# Altium schematic symbol library WS-TOTV.SchLib: 20 symbols
Pins are listed as number, name and electrical type; pins without a type are passive.

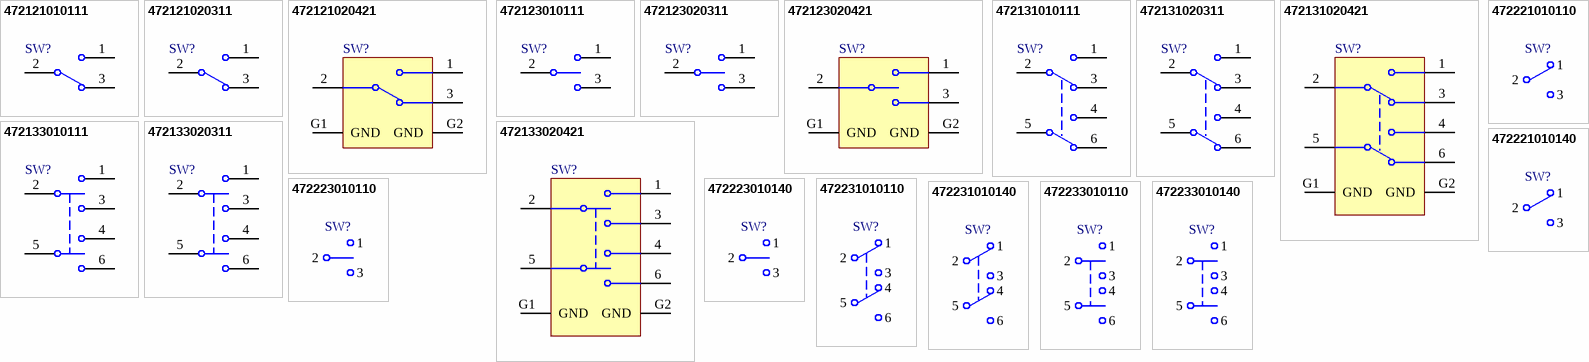
[diagram p0: symbols 472121010111 to 472233010140]

## 472121010111
designator SW?  (value not drawn)
WS-TOTV Ø 6.35mm Panel Cut-Out Vertical Operation Toggle Switch, SPDT, ON-ON; Manufacturer: Wurth Elektronik; Actuator Length: 10.4mm; Bushing Length: 9mm; Insulation Resistance: 1000MΩ; Rated Current: 1A; Rated Voltage (DC): 30V; Withstanding Voltage: 500VAC; Manufacturer Part Number: 472121010111; Category: Toggle Switch; Match Code: WS-TOTV; ComponentLink1Description: Website Link; ComponentLink1URL: https://www.we-online.com/redexpert/article/472121010111?ad; ComponentLink2Description: Datasheet Link; ComponentLink2URL: https://www.we-online.com/redexpert/spec/472121010111?ad; Min Operating Temperature: -40°C; Max Operating Temperature: 85°C; Packaging: Tray; Length: 12.7mm; Width: 6.6mm; Height: 28.2mm; Circuit: SPDT; Switching Function: ON-ON
footprint 472121010111
pins: 1, 2, 3

## 472121020311
designator SW?  (value not drawn)
WS-TOTV Ø 6.35mm Panel Cut-Out Vertical Operation Toggle Switch, SPDT, ON-ON; Manufacturer: Wurth Elektronik; Actuator Length: 7.3mm; Bushing Length: 7.1mm; Insulation Resistance: 1000MΩ; Rated Current: 1A; Rated Voltage (DC): 30V; Withstanding Voltage: 500VAC; Manufacturer Part Number: 472121020311; Category: Toggle Switch; Match Code: WS-TOTV; ComponentLink1Description: Website Link; ComponentLink1URL: https://www.we-online.com/redexpert/article/472121020311?ad; ComponentLink2Description: Datasheet Link; ComponentLink2URL: https://www.we-online.com/redexpert/spec/472121020311?ad; Min Operating Temperature: -40°C; Max Operating Temperature: 85°C; Packaging: Tray; Length: 12.7mm; Width: 6.6mm; Height: 23.2mm; Circuit: SPDT; Switching Function: ON-ON
footprint 472121020311
pins: 1, 2, 3

## 472121020421
designator SW?  (value not drawn)
WS-TOTV Ø 6.35mm Panel Cut-Out Right Angle Operation Toggle Switch, SPDT, ON-ON; Manufacturer: Wurth Elektronik; Actuator Length: 6.7mm; Insulation Resistance: 1000MΩ; Rated Current: 1A; Rated Voltage (DC): 30V; Withstanding Voltage: 500VAC; Manufacturer Part Number: 472121020421; Category: Toggle Switch; Match Code: WS-TOTV; ComponentLink1Description: Website Link; ComponentLink1URL: https://www.we-online.com/redexpert/article/472121020421?ad; ComponentLink2Description: Datasheet Link; ComponentLink2URL: https://www.we-online.com/redexpert/spec/472121020421?ad; Min Operating Temperature: -40°C; Max Operating Temperature: 85°C; Packaging: Tray; Length: 12.7mm; Width: 22.6mm; Height: 6.6mm; Bushing Length: 6.7mm; Circuit: SPDT; Switching Function: ON-ON
footprint 472121020421
pins: 1, 2, 3, G1 GND, G2 GND

## 472123010111
designator SW?  (value not drawn)
WS-TOTV Ø 6.35mm Panel Cut-Out Vertical Operation Toggle Switch, SPDT, ON-OFF-ON; Manufacturer: Wurth Elektronik; Actuator Length: 10.7mm; Bushing Length: 9mm; Insulation Resistance: 1000MΩ; Rated Current: 1A; Rated Voltage (DC): 30V; Withstanding Voltage: 500VAC; Manufacturer Part Number: 472123010111; Category: Toggle Switch; Match Code: WS-TOTV; ComponentLink1Description: Website Link; ComponentLink1URL: https://www.we-online.com/redexpert/article/472123010111?ad; ComponentLink2Description: Datasheet Link; ComponentLink2URL: https://www.we-online.com/redexpert/spec/472123010111?ad; Min Operating Temperature: -40°C; Max Operating Temperature: 85°C; Packaging: Tray; Length: 12.7mm; Width: 6.6mm; Height: 28.5mm; Circuit: SPDT; Switching Function: ON-OFF-ON
footprint 472123010111
pins: 1, 2, 3

## 472123020311
designator SW?  (value not drawn)
WS-TOTV Ø 6.35mm Panel Cut-Out Vertical Operation Toggle Switch, SPDT, ON-OFF-ON; Manufacturer: Wurth Elektronik; Actuator Length: 7.5mm; Bushing Length: 7.1mm; Insulation Resistance: 1000MΩ; Rated Current: 1A; Rated Voltage (DC): 30V; Withstanding Voltage: 500VAC; Manufacturer Part Number: 472123020311; Category: Toggle Switch; Match Code: WS-TOTV; ComponentLink1Description: Website Link; ComponentLink1URL: https://www.we-online.com/redexpert/article/472123020311?ad; ComponentLink2Description: Datasheet Link; ComponentLink2URL: https://www.we-online.com/redexpert/spec/472123020311?ad; Min Operating Temperature: -40°C; Max Operating Temperature: 85°C; Packaging: Tray; Length: 12.7mm; Width: 6.6mm; Height: 23.4mm; Circuit: SPDT; Switching Function: ON-OFF-ON
footprint 472123020311
pins: 1, 2, 3

## 472123020421
designator SW?  (value not drawn)
WS-TOTV Ø 6.35mm Panel Cut-Out Right Angle Operation Toggle Switch, SPDT, ON-OFF-ON; Manufacturer: Wurth Elektronik; Actuator Length: 7mm; Insulation Resistance: 1000MΩ; Rated Current: 1A; Rated Voltage (DC): 30V; Withstanding Voltage: 500VAC; Manufacturer Part Number: 472123020421; Category: Toggle Switch; Match Code: WS-TOTV; ComponentLink1Description: Website Link; ComponentLink1URL: https://www.we-online.com/redexpert/article/472123020421?ad; ComponentLink2Description: Datasheet Link; ComponentLink2URL: https://www.we-online.com/redexpert/spec/472123020421?ad; Min Operating Temperature: -40°C; Max Operating Temperature: 85°C; Packaging: Tray; Length: 12.7mm; Width: 22.9mm; Height: 6.6mm; Bushing Length: 7mm; Circuit: SPDT; Switching Function: ON-OFF-ON
footprint 472123020421
pins: 1, 2, 3, G1 GND, G2 GND

## 472131010111
designator SW?  (value not drawn)
WS-TOTV Ø 6.35mm Panel Cut-Out Vertical Operation Toggle Switch, DPDT, ON-ON; Manufacturer: Wurth Elektronik; Actuator Length: 10.4mm; Bushing Length: 9mm; Insulation Resistance: 1000MΩ; Rated Current: 1A; Rated Voltage (DC): 30V; Withstanding Voltage: 500VAC; Manufacturer Part Number: 472131010111; Category: Toggle Switch; Match Code: WS-TOTV; ComponentLink1Description: Website Link; ComponentLink1URL: https://www.we-online.com/redexpert/article/472131010111?ad; ComponentLink2Description: Datasheet Link; ComponentLink2URL: https://www.we-online.com/redexpert/spec/472131010111?ad; Min Operating Temperature: -40°C; Max Operating Temperature: 85°C; Packaging: Tray; Length: 12.7mm; Width: 11.4mm; Height: 29.6mm; Circuit: DPDT; Switching Function: ON-ON
footprint 472131010111
pins: 1, 2, 3, 4, 5, 6

## 472131020311
designator SW?  (value not drawn)
WS-TOTV Ø 6.35mm Panel Cut-Out Vertical Operation Toggle Switch, DPDT, ON-ON; Manufacturer: Wurth Elektronik; Actuator Length: 7.3mm; Bushing Length: 7.1mm; Insulation Resistance: 1000MΩ; Rated Current: 1A; Rated Voltage (DC): 30V; Withstanding Voltage: 500VAC; Manufacturer Part Number: 472131020311; Category: Toggle Switch; Match Code: WS-TOTV; ComponentLink1Description: Website Link; ComponentLink1URL: https://www.we-online.com/redexpert/article/472131020311?ad; ComponentLink2Description: Datasheet Link; ComponentLink2URL: https://www.we-online.com/redexpert/spec/472131020311?ad; Min Operating Temperature: -40°C; Max Operating Temperature: 85°C; Packaging: Tray; Length: 12.7mm; Width: 11.4mm; Height: 24.6mm; Circuit: DPDT; Switching Function: ON-ON
footprint 472131020311
pins: 1, 2, 3, 4, 5, 6

## 472131020421
designator SW?  (value not drawn)
WS-TOTV Ø 6.35mm Panel Cut-Out Right Angle Operation Toggle Switch, DPDT, ON-ON; Manufacturer: Wurth Elektronik; Actuator Length: 6.7mm; Insulation Resistance: 1000MΩ; Rated Current: 1A; Rated Voltage (DC): 30V; Withstanding Voltage: 500VAC; Manufacturer Part Number: 472131020421; Category: Toggle Switch; Match Code: WS-TOTV; ComponentLink1Description: Website Link; ComponentLink1URL: https://www.we-online.com/redexpert/article/472131020421?ad; ComponentLink2Description: Datasheet Link; ComponentLink2URL: https://www.we-online.com/redexpert/spec/472131020421?ad; Min Operating Temperature: -40°C; Max Operating Temperature: 85°C; Packaging: Tray; Length: 12.7mm; Width: 22.6mm; Height: 11.4mm; Bushing Length: 6.7mm; Circuit: DPDT; Switching Function: ON-ON
footprint 472131020421
pins: 1, 2, 3, 4, 5, 6, G1 GND, G2 GND

## 472133010111
designator SW?  (value not drawn)
WS-TOTV Ø 6.35mm Panel Cut-Out Vertical Operation Toggle Switch, DPDT, ON-OFF-ON; Manufacturer: Wurth Elektronik; Actuator Length: 10.7mm; Bushing Length: 9mm; Insulation Resistance: 1000MΩ; Rated Current: 1A; Rated Voltage (DC): 30V; Withstanding Voltage: 500VAC; Manufacturer Part Number: 472133010111; Category: Toggle Switch; Match Code: WS-TOTV; ComponentLink1Description: Website Link; ComponentLink1URL: https://www.we-online.com/redexpert/article/472133010111?ad; ComponentLink2Description: Datasheet Link; ComponentLink2URL: https://www.we-online.com/redexpert/spec/472133010111?ad; Min Operating Temperature: -40°C; Max Operating Temperature: 85°C; Packaging: Tray; Length: 12.7mm; Width: 11.4mm; Height: 29.9mm; Circuit: DPDT; Switching Function: ON-OFF-ON
footprint 472133010111
pins: 1, 2, 3, 4, 5, 6

## 472133020311
designator SW?  (value not drawn)
WS-TOTV Ø 6.35mm Panel Cut-Out Vertical Operation Toggle Switch, DPDT, ON-OFF-ON; Manufacturer: Wurth Elektronik; Actuator Length: 7.5mm; Bushing Length: 7.1mm; Insulation Resistance: 1000MΩ; Rated Current: 1A; Rated Voltage (DC): 30V; Withstanding Voltage: 500VAC; Manufacturer Part Number: 472133020311; Category: Toggle Switch; Match Code: WS-TOTV; ComponentLink1Description: Website Link; ComponentLink1URL: https://www.we-online.com/redexpert/article/472133020311?ad; ComponentLink2Description: Datasheet Link; ComponentLink2URL: https://www.we-online.com/redexpert/spec/472133020311?ad; Min Operating Temperature: -40°C; Max Operating Temperature: 85°C; Packaging: Tray; Length: 12.7mm; Width: 11.4mm; Height: 24.8mm; Circuit: DPDT; Switching Function: ON-OFF-ON
footprint 472133020311
pins: 1, 2, 3, 4, 5, 6

## 472133020421
designator SW?  (value not drawn)
WS-TOTV Ø 6.35 mm Panel Cut-Out Right Angle Operation Toggle Switch, DPDT, ON-OFF-ON; Manufacturer: Wurth Elektronik; Actuator Length: 7mm; Bushing Length: 7.1mm; Insulation Resistance: 1000MΩ; Rated Current: 1A; Rated Voltage (DC): 30V; Withstanding Voltage: 500VAC; Manufacturer Part Number: 472133020421; Category: Toggle Switch; Match Code: WS-TOTV; ComponentLink1Description: Website Link; ComponentLink1URL: https://www.we-online.com/redexpert/article/472133020421?ad; ComponentLink2Description: Datasheet Link; ComponentLink2URL: https://www.we-online.com/redexpert/spec/472133020421?ad; Min Operating Temperature: -40°C; Max Operating Temperature: 85°C; Packaging: Tray; Length: 12.7mm; Width: 22.9mm; Height: 11.4mm; Circuit: DPDT; Switching Function: ON-OFF-ON
footprint 472133020421
pins: 1, 2, 3, 4, 5, 6, G1 GND, G2 GND

## 472221010110
designator SW?  (value not drawn)
WS-TOTV Ø 12 mm Panel Cut-Out Vertical Operation Toggle Switch with 6.3 mm quick-connect Terminal, SPDT, ON-ON; Manufacturer: Wurth Elektronik; Insulation Resistance: 100MΩ; Manufacturer Part Number: 472221010110; Category: Toggle Switch; Match Code: WS-TOTV; ComponentLink1Description: Website Link; ComponentLink1URL: https://www.we-online.com/redexpert/article/472221010110?ad; ComponentLink2Description: Datasheet Link; ComponentLink2URL: https://www.we-online.com/redexpert/spec/472221010110?ad; Min Operating Temperature: -40°C; Max Operating Temperature: 85°C; Packaging: Tray; Circuit: SPDT; Switching Function: ON-ON
footprint 472221010110_without locking ring
footprint 472221010110_with locking ring
text: 1; 2; 3

## 472221010140
designator SW?  (value not drawn)
WS-TOTV Ø 12 mm Panel Cut-Out Vertical Operation Toggle Switch with Screw Terminal, SPDT, ON-ON; Manufacturer: Wurth Elektronik; Insulation Resistance: 100MΩ; Manufacturer Part Number: 472221010140; Category: Toggle Switch; Match Code: WS-TOTV; ComponentLink1Description: Website Link; ComponentLink1URL: https://www.we-online.com/redexpert/article/472221010140?ad; ComponentLink2Description: Datasheet Link; ComponentLink2URL: https://www.we-online.com/redexpert/spec/472221010140?ad; Min Operating Temperature: -40°C; Max Operating Temperature: 85°C; Packaging: Tray; Circuit: SPDT; Switching Function: ON-ON
footprint 472221010140_without locking ring
footprint 472221010140_with locking ring
text: 1; 2; 3

## 472223010110
designator SW?  (value not drawn)
WS-TOTV Ø 12 mm Panel Cut-Out Vertical Operation Toggle Switch with 6.3 mm quick-connect Terminal, SPDT, ON-OFF-ON; Manufacturer: Wurth Elektronik; Insulation Resistance: 100MΩ; Manufacturer Part Number: 472223010110; Category: Toggle Switch; Match Code: WS-TOTV; ComponentLink1Description: Website Link; ComponentLink1URL: https://www.we-online.com/redexpert/article/472223010110?ad; ComponentLink2Description: Datasheet Link; ComponentLink2URL: https://www.we-online.com/redexpert/spec/472223010110?ad; Min Operating Temperature: -40°C; Max Operating Temperature: 85°C; Packaging: Tray; Circuit: SPDT; Switching Function: ON-OFF-ON
footprint 472223010110_without locking ring
footprint 472223010110_with locking ring
text: 1; 2; 3

## 472223010140
designator SW?  (value not drawn)
WS-TOTV Ø 12 mm Panel Cut-Out Vertical Operation Toggle Switch with Screw Terminal, SPDT, ON-OFF-ON; Manufacturer: Wurth Elektronik; Insulation Resistance: 100MΩ; Manufacturer Part Number: 472223010140; Category: Toggle Switch; Match Code: WS-TOTV; ComponentLink1Description: Website Link; ComponentLink1URL: https://www.we-online.com/redexpert/article/472223010140?ad; ComponentLink2Description: Datasheet Link; ComponentLink2URL: https://www.we-online.com/redexpert/spec/472223010140?ad; Min Operating Temperature: -40°C; Max Operating Temperature: 85°C; Packaging: Tray; Circuit: SPDT; Switching Function: ON-OFF-ON
footprint 472223010140_without locking ring
footprint 472223010140_with locking ring
text: 1; 2; 3

## 472231010110
designator SW?  (value not drawn)
WS-TOTV Ø 12 mm Panel Cut-Out Vertical Operation Toggle Switch with 6.3 mm quick-connect Terminal, DPDT, ON-ON; Manufacturer: Wurth Elektronik; Insulation Resistance: 100MΩ; Manufacturer Part Number: 472231010110; Category: Toggle Switch; Match Code: WS-TOTV; ComponentLink1Description: Website Link; ComponentLink1URL: https://www.we-online.com/redexpert/article/472231010110?ad; ComponentLink2Description: Datasheet Link; ComponentLink2URL: https://www.we-online.com/redexpert/spec/472231010110?ad; Min Operating Temperature: -40°C; Max Operating Temperature: 85°C; Packaging: Tray; Circuit: DPDT; Switching Function: ON-ON
footprint 472231010110_without locking ring
footprint 472231010110_with locking ring
text: 1; 2; 3; 4; 5; 6

## 472231010140
designator SW?  (value not drawn)
WS-TOTV Ø 12 mm Panel Cut-Out Vertical Operation Toggle Switch with Screw Terminal, DPDT, ON-ON; Manufacturer: Wurth Elektronik; Insulation Resistance: 100MΩ; Manufacturer Part Number: 472231010140; Category: Toggle Switch; Match Code: WS-TOTV; ComponentLink1Description: Website Link; ComponentLink1URL: https://www.we-online.com/redexpert/article/472231010140?ad; ComponentLink2Description: Datasheet Link; ComponentLink2URL: https://www.we-online.com/redexpert/spec/472231010140?ad; Min Operating Temperature: -40°C; Max Operating Temperature: 85°C; Packaging: Tray; Circuit: DPDT; Switching Function: ON-ON
footprint 472231010140_without locking ring
footprint 472231010140_with locking ring
text: 1; 2; 3; 4; 5; 6

## 472233010110
designator SW?  (value not drawn)
WS-TOTV Ø 12 mm Panel Cut-Out Vertical Operation Toggle Switch with 6.3 mm quick-connect Terminal, DPDT, ON-OFF-ON; Manufacturer: Wurth Elektronik; Insulation Resistance: 100MΩ; Manufacturer Part Number: 472233010110; Category: Toggle Switch; Match Code: WS-TOTV; ComponentLink1Description: Website Link; ComponentLink1URL: https://www.we-online.com/redexpert/article/472233010110?ad; ComponentLink2Description: Datasheet Link; ComponentLink2URL: https://www.we-online.com/redexpert/spec/472233010110?ad; Min Operating Temperature: -40°C; Max Operating Temperature: 85°C; Packaging: Tray; Circuit: DPDT; Switching Function: ON-OFF-ON
footprint 472233010110_without locking ring
footprint 472233010110_with locking ring
text: 1; 2; 3; 4; 5; 6

## 472233010140
designator SW?  (value not drawn)
WS-TOTV Ø 12 mm Panel Cut-Out Vertical Operation Toggle Switch with Screw Terminal, DPDT, ON-OFF-ON; Manufacturer: Wurth Elektronik; Insulation Resistance: 100MΩ; Manufacturer Part Number: 472233010140; Category: Toggle Switch; Match Code: WS-TOTV; ComponentLink1Description: Website Link; ComponentLink1URL: https://www.we-online.com/redexpert/article/472233010140?ad; ComponentLink2Description: Datasheet Link; ComponentLink2URL: https://www.we-online.com/redexpert/spec/472233010140?ad; Min Operating Temperature: -40°C; Max Operating Temperature: 85°C; Packaging: Tray; Circuit: DPDT; Switching Function: ON-OFF-ON
footprint 472233010140_without locking ring
footprint 472233010140_with locking ring
text: 1; 2; 3; 4; 5; 6